# EAGLE library part AD7173 (library AD7173)
IEEE 802.15.4? 2.4 GHz RF Transceiver Source: http://ww1.microchip.com/downloads/en/DeviceDoc/39776a.pdf
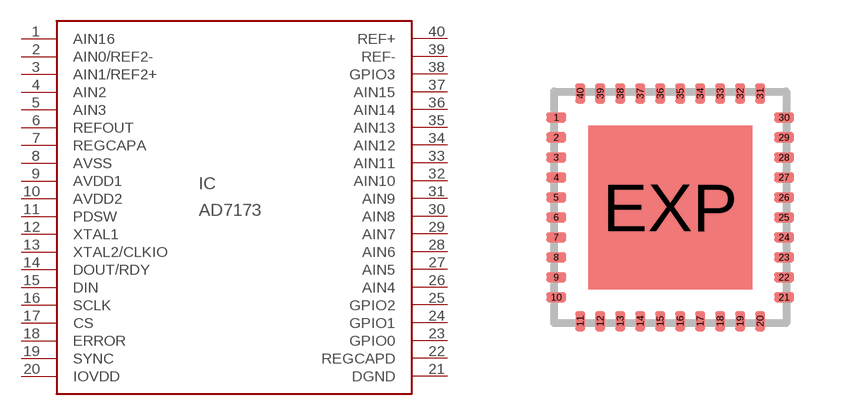
[diagram p0: symbol with the pads of LFCSP_WQ6X6MM; footprint LFCSP_WQ6X6MM]

Designator prefix IC

## AD7173 (MPN: MRF24J40-I/ML; OC_FARNELL: 1436019; OC_NEWARK: 17M0699)  [LFCSP_WQ6X6MM]
1  AIN16  pwr
2  AIN0/REF2-
3  AIN1/REF2+
4  AIN2  pwr
5  AIN3  pwr
6  REFOUT  pwr
7  REGCAPA  in
8  AVSS  in
9  AVDD1  in
10  AVDD2  in
11  PDSW  in
12  XTAL1  in
13  XTAL2/CLKIO  in
14  DOUT/RDY  pwr
15  DIN  in
16  SCLK  out
17  CS  in
18  ERROR  in
19  SYNC  in
20  IOVDD  in
21  DGND  pwr
22  REGCAPD  pwr
23  GPIO0  nc
24  GPIO1  pwr
25  GPIO2  pwr
26  AIN4  in
27  AIN5  in
28  AIN6  in
29  AIN7  out
30  AIN8  out
31  AIN9  pwr
32  AIN10  pwr
33  AIN11  in
34  AIN12  in
35  AIN13  pwr
36  AIN14  pwr
37  AIN15  pwr
38  GPIO3  nc
39  REF-  pwr
40  REF+  nc

## Footprint LFCSP_WQ6X6MM (pad centres in mm)
40-Lead Plastic Quad Flat 6x6x0.9 mm Body [QFN] With 0.40 mm Contact Length Source: http://ww1.microchip.com/downloads/en/DeviceDoc/39776a.pdf
smd 0.5 x 0.25: 1 -2.85,2.25; 2 -2.85,1.75; 3 -2.85,1.25; 4 -2.85,0.75; 5 -2.85,0.25; 6 -2.85,-0.25; 7 -2.85,-0.75; 8 -2.85,-1.25; 9 -2.85,-1.75; 10 -2.85,-2.25; 21 2.85,-2.25; 22 2.85,-1.75; 23 2.85,-1.25; 24 2.85,-0.75; 25 2.85,-0.25; 26 2.85,0.25; 27 2.85,0.75; 28 2.85,1.25; 29 2.85,1.75; 30 2.85,2.25
smd 0.25 x 0.5: 11 -2.25,-2.85; 12 -1.75,-2.85; 13 -1.25,-2.85; 14 -0.75,-2.85; 15 -0.25,-2.85; 16 0.25,-2.85; 17 0.75,-2.85; 18 1.25,-2.85; 19 1.75,-2.85; 20 2.25,-2.85; 31 2.25,2.85; 32 1.75,2.85; 33 1.25,2.85; 34 0.75,2.85; 35 0.25,2.85; 36 -0.25,2.85; 37 -0.75,2.85; 38 -1.25,2.85; 39 -1.75,2.85; 40 -2.25,2.85
smd 4.1 x 4.1: EXP 0,0